# EAGLE library part LM2941 (library xess)
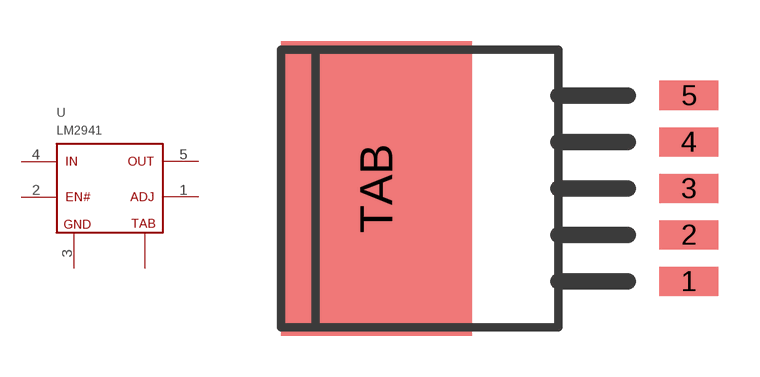
[diagram p120: symbol with the pads of TO-263-5; footprint TO-263-5]

Designator prefix U

## LM2941TO-263-5  [TO-263-5]
1  ADJ  in
2  EN#  in
3  GND  pwr
4  IN  in
5  OUT  pwr
TAB  TAB  pwr

## Footprint TO-263-5 (pad centres in mm)
smd 2.159 x 1.067: 1 14.935,-3.404; 2 14.935,-1.702; 3 14.935,0; 4 14.935,1.702; 5 14.935,3.404
smd 6.985 x 10.795: TAB 3.493,0